# EAGLE library part XCV600E_PQ208 (library xilinx-xcv)
xcv600e_pq208 edit this description Auto generated by make-symbol-device-package-bsdl.ulp Rev. 26 Source: xcv600e_pq208.bsd
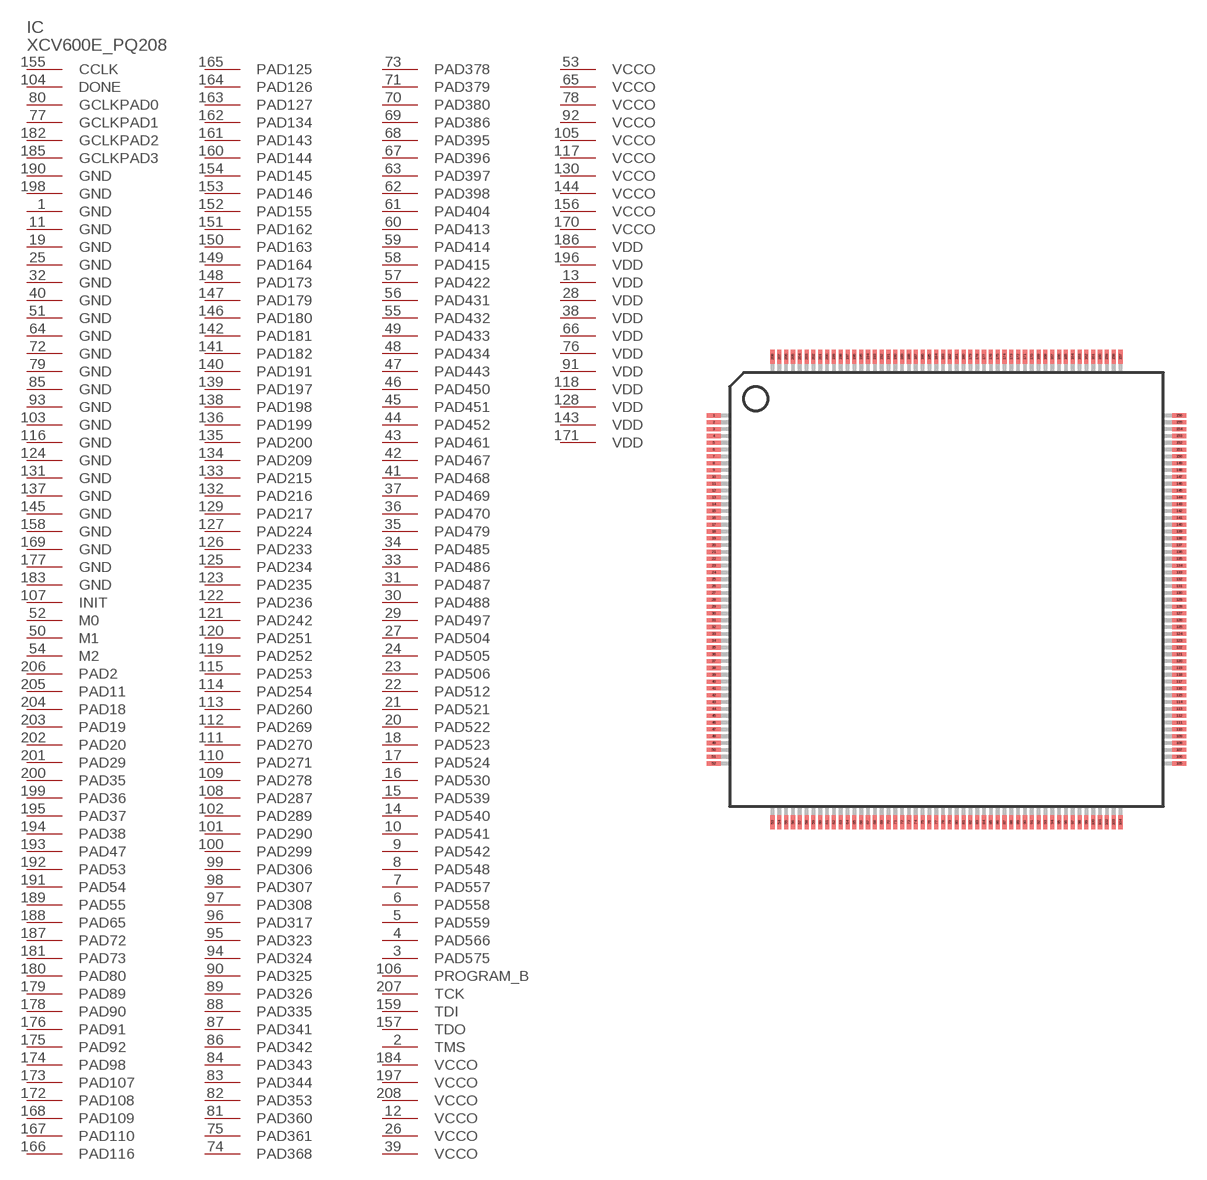
[diagram p120: symbol with the pads of PQ208; footprint PQ208]

Designator prefix IC

## XCV600E_PQ208  [PQ208]
1  GND  pwr
2  TMS  in
3  PAD575
4  PAD566
5  PAD559
6  PAD558
7  PAD557
8  PAD548
9  PAD542
10  PAD541
11  GND  pwr
12  VCCO  pwr
13  VDD  pwr
14  PAD540
15  PAD539
16  PAD530
17  PAD524
18  PAD523
19  GND  pwr
20  PAD522
21  PAD521
22  PAD512
23  PAD506
24  PAD505
25  GND  pwr
26  VCCO  pwr
27  PAD504
28  VDD  pwr
29  PAD497
30  PAD488
31  PAD487
32  GND  pwr
33  PAD486
34  PAD485
35  PAD479
36  PAD470
37  PAD469
38  VDD  pwr
39  VCCO  pwr
40  GND  pwr
41  PAD468
42  PAD467
43  PAD461
44  PAD452
45  PAD451
46  PAD450
47  PAD443
48  PAD434
49  PAD433
50  M1  in
51  GND  pwr
52  M0  in
53  VCCO  pwr
54  M2  in
55  PAD432
56  PAD431
57  PAD422
58  PAD415
59  PAD414
60  PAD413
61  PAD404
62  PAD398
63  PAD397
64  GND  pwr
65  VCCO  pwr
66  VDD  pwr
67  PAD396
68  PAD395
69  PAD386
70  PAD380
71  PAD379
72  GND  pwr
73  PAD378
74  PAD368
75  PAD361
76  VDD  pwr
77  GCLKPAD1  in
78  VCCO  pwr
79  GND  pwr
80  GCLKPAD0  in
81  PAD360
82  PAD353
83  PAD344
84  PAD343
85  GND  pwr
86  PAD342
87  PAD341
88  PAD335
89  PAD326
90  PAD325
91  VDD  pwr
92  VCCO  pwr
93  GND  pwr
94  PAD324
95  PAD323
96  PAD317
97  PAD308
98  PAD307
99  PAD306
100  PAD299
101  PAD290
102  PAD289
103  GND  pwr
104  DONE
105  VCCO  pwr
106  PROGRAM_B  in
107  INIT
108  PAD287
109  PAD278
110  PAD271
111  PAD270
112  PAD269
113  PAD260
114  PAD254
115  PAD253
116  GND  pwr
117  VCCO  pwr
118  VDD  pwr
119  PAD252
120  PAD251
121  PAD242
122  PAD236
123  PAD235
124  GND  pwr
125  PAD234
126  PAD233
127  PAD224
128  VDD  pwr
129  PAD217
130  VCCO  pwr
131  GND  pwr
132  PAD216
133  PAD215
134  PAD209
135  PAD200
136  PAD199
137  GND  pwr
138  PAD198
139  PAD197
140  PAD191
141  PAD182
142  PAD181
143  VDD  pwr
144  VCCO  pwr
145  GND  pwr
146  PAD180
147  PAD179
148  PAD173
149  PAD164
150  PAD163
151  PAD162
152  PAD155
153  PAD146
154  PAD145
155  CCLK
156  VCCO  pwr
157  TDO  out
158  GND  pwr
159  TDI  in
160  PAD144
161  PAD143
162  PAD134
163  PAD127
164  PAD126
165  PAD125
166  PAD116
167  PAD110
168  PAD109
169  GND  pwr
170  VCCO  pwr
171  VDD  pwr
172  PAD108
173  PAD107
174  PAD98
175  PAD92
176  PAD91
177  GND  pwr
178  PAD90
179  PAD89
180  PAD80
181  PAD73
182  GCLKPAD2  in
183  GND  pwr
184  VCCO  pwr
185  GCLKPAD3  in
186  VDD  pwr
187  PAD72
188  PAD65
189  PAD55
190  GND  pwr
191  PAD54
192  PAD53
193  PAD47
194  PAD38
195  PAD37
196  VDD  pwr
197  VCCO  pwr
198  GND  pwr
199  PAD36
200  PAD35
201  PAD29
202  PAD20
203  PAD19
204  PAD18
205  PAD11
206  PAD2
207  TCK  in
208  VCCO  pwr

## Footprint PQ208 (pad centres in mm)
PQ208 Auto generated by make-symbol-device-package-bsdl.ulp Rev. 26
smd 1 x 0.3: 1 -17.05,12.75; 2 -17.05,12.25; 3 -17.05,11.75; 4 -17.05,11.25; 5 -17.05,10.75; 6 -17.05,10.25; 7 -17.05,9.75; 8 -17.05,9.25; 9 -17.05,8.75; 10 -17.05,8.25; 11 -17.05,7.75; 12 -17.05,7.25; 13 -17.05,6.75; 14 -17.05,6.25; 15 -17.05,5.75; 16 -17.05,5.25; 17 -17.05,4.75; 18 -17.05,4.25; 19 -17.05,3.75; 20 -17.05,3.25; 21 -17.05,2.75; 22 -17.05,2.25; 23 -17.05,1.75; 24 -17.05,1.25; 25 -17.05,0.75; 26 -17.05,0.25; 27 -17.05,-0.25; 28 -17.05,-0.75; 29 -17.05,-1.25; 30 -17.05,-1.75; 31 -17.05,-2.25; 32 -17.05,-2.75; 33 -17.05,-3.25; 34 -17.05,-3.75; 35 -17.05,-4.25; 36 -17.05,-4.75; 37 -17.05,-5.25; 38 -17.05,-5.75; 39 -17.05,-6.25; 40 -17.05,-6.75; 41 -17.05,-7.25; 42 -17.05,-7.75; 43 -17.05,-8.25; 44 -17.05,-8.75; 45 -17.05,-9.25; 46 -17.05,-9.75; 47 -17.05,-10.25; 48 -17.05,-10.75; 49 -17.05,-11.25; 50 -17.05,-11.75; 51 -17.05,-12.25; 52 -17.05,-12.75; 105 17.05,-12.75; 106 17.05,-12.25; 107 17.05,-11.75; 108 17.05,-11.25; 109 17.05,-10.75; 110 17.05,-10.25; 111 17.05,-9.75; 112 17.05,-9.25; 113 17.05,-8.75; 114 17.05,-8.25; 115 17.05,-7.75; 116 17.05,-7.25; 117 17.05,-6.75; 118 17.05,-6.25; 119 17.05,-5.75; 120 17.05,-5.25; 121 17.05,-4.75; 122 17.05,-4.25; 123 17.05,-3.75; 124 17.05,-3.25; 125 17.05,-2.75; 126 17.05,-2.25; 127 17.05,-1.75; 128 17.05,-1.25; 129 17.05,-0.75; 130 17.05,-0.25; 131 17.05,0.25; 132 17.05,0.75; 133 17.05,1.25; 134 17.05,1.75; 135 17.05,2.25; 136 17.05,2.75; 137 17.05,3.25; 138 17.05,3.75; 139 17.05,4.25; 140 17.05,4.75; 141 17.05,5.25; 142 17.05,5.75; 143 17.05,6.25; 144 17.05,6.75; 145 17.05,7.25; 146 17.05,7.75; 147 17.05,8.25; 148 17.05,8.75; 149 17.05,9.25; 150 17.05,9.75; 151 17.05,10.25; 152 17.05,10.75; 153 17.05,11.25; 154 17.05,11.75; 155 17.05,12.25; 156 17.05,12.75
smd 0.3 x 1: 53 -12.75,-17.05; 54 -12.25,-17.05; 55 -11.75,-17.05; 56 -11.25,-17.05; 57 -10.75,-17.05; 58 -10.25,-17.05; 59 -9.75,-17.05; 60 -9.25,-17.05; 61 -8.75,-17.05; 62 -8.25,-17.05; 63 -7.75,-17.05; 64 -7.25,-17.05; 65 -6.75,-17.05; 66 -6.25,-17.05; 67 -5.75,-17.05; 68 -5.25,-17.05; 69 -4.75,-17.05; 70 -4.25,-17.05; 71 -3.75,-17.05; 72 -3.25,-17.05; 73 -2.75,-17.05; 74 -2.25,-17.05; 75 -1.75,-17.05; 76 -1.25,-17.05; 77 -0.75,-17.05; 78 -0.25,-17.05; 79 0.25,-17.05; 80 0.75,-17.05; 81 1.25,-17.05; 82 1.75,-17.05; 83 2.25,-17.05; 84 2.75,-17.05; 85 3.25,-17.05; 86 3.75,-17.05; 87 4.25,-17.05; 88 4.75,-17.05; 89 5.25,-17.05; 90 5.75,-17.05; 91 6.25,-17.05; 92 6.75,-17.05; 93 7.25,-17.05; 94 7.75,-17.05; 95 8.25,-17.05; 96 8.75,-17.05; 97 9.25,-17.05; 98 9.75,-17.05; 99 10.25,-17.05; 100 10.75,-17.05; 101 11.25,-17.05; 102 11.75,-17.05; 103 12.25,-17.05; 104 12.75,-17.05; 157 12.75,17.05; 158 12.25,17.05; 159 11.75,17.05; 160 11.25,17.05; 161 10.75,17.05; 162 10.25,17.05; 163 9.75,17.05; 164 9.25,17.05; 165 8.75,17.05; 166 8.25,17.05; 167 7.75,17.05; 168 7.25,17.05; 169 6.75,17.05; 170 6.25,17.05; 171 5.75,17.05; 172 5.25,17.05; 173 4.75,17.05; 174 4.25,17.05; 175 3.75,17.05; 176 3.25,17.05; 177 2.75,17.05; 178 2.25,17.05; 179 1.75,17.05; 180 1.25,17.05; 181 0.75,17.05; 182 0.25,17.05; 183 -0.25,17.05; 184 -0.75,17.05; 185 -1.25,17.05; 186 -1.75,17.05; 187 -2.25,17.05; 188 -2.75,17.05; 189 -3.25,17.05; 190 -3.75,17.05; 191 -4.25,17.05; 192 -4.75,17.05; 193 -5.25,17.05; 194 -5.75,17.05; 195 -6.25,17.05; 196 -6.75,17.05; 197 -7.25,17.05; 198 -7.75,17.05; 199 -8.25,17.05; 200 -8.75,17.05; 201 -9.25,17.05; 202 -9.75,17.05; 203 -10.25,17.05; 204 -10.75,17.05; 205 -11.25,17.05; 206 -11.75,17.05; 207 -12.25,17.05; 208 -12.75,17.05